# EAGLE library part SCB2000 (library ADVsocket-computer)
24MHz Socket Computer w. 10Base-T Ethernet-Interface, 128kB RAM , 512kFlash, 4 UARTs
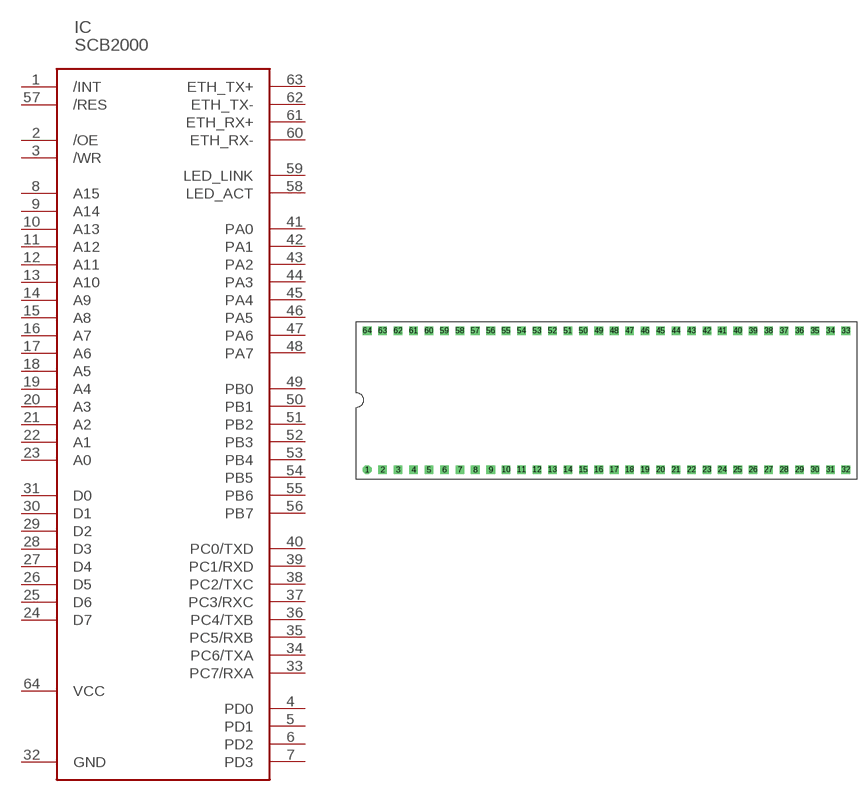
[diagram p0: symbol with the pads of DIL64; footprint DIL64]

Designator prefix IC

## SCB2000  [DIL64]
1  /INT  in
2  /OE  out
3  /WR  out
4  PD0
5  PD1
6  PD2
7  PD3
8  A15  out
9  A14  out
10  A13  out
11  A12  out
12  A11  out
13  A10  out
14  A9  out
15  A8  out
16  A7  out
17  A6  out
18  A5  out
19  A4  out
20  A3  out
21  A2  out
22  A1  out
23  A0  out
24  D7
25  D6
26  D5
27  D4
28  D3
29  D2
30  D1
31  D0
32  GND  pwr
33  PC7/RXA  in
34  PC6/TXA  out
35  PC5/RXB  in
36  PC4/TXB  out
37  PC3/RXC  in
38  PC2/TXC  out
39  PC1/RXD  in
40  PC0/TXD  out
41  PA0
42  PA1
43  PA2
44  PA3
45  PA4
46  PA5
47  PA6
48  PA7
49  PB0  in
50  PB1  in
51  PB2  in
52  PB3  in
53  PB4  in
54  PB5  in
55  PB6  out
56  PB7  out
57  /RES  in
58  LED_ACT  out
59  LED_LINK  out
60  ETH_RX-  in
61  ETH_RX+  in
62  ETH_TX-  out
63  ETH_TX+  out
64  VCC  pwr

## Footprint DIL64 (pad centres in mm)
drill 0.813 pad 1.422 octagon: 1 -38.1,-11.43
drill 0.813 pad 1.422 square: 2 -35.56,-11.43; 3 -33.02,-11.43; 4 -30.48,-11.43; 5 -27.94,-11.43; 6 -25.4,-11.43; 7 -22.86,-11.43; 8 -20.32,-11.43; 9 -17.78,-11.43; 10 -15.24,-11.43; 11 -12.7,-11.43; 12 -10.16,-11.43; 13 -7.62,-11.43; 14 -5.08,-11.43; 15 -2.54,-11.43; 16 0,-11.43; 17 2.54,-11.43; 18 5.08,-11.43; 19 7.62,-11.43; 20 10.16,-11.43; 21 12.7,-11.43; 22 15.24,-11.43; 23 17.78,-11.43; 24 20.32,-11.43; 25 22.86,-11.43; 26 25.4,-11.43; 27 27.94,-11.43; 28 30.48,-11.43; 29 33.02,-11.43; 30 35.56,-11.43; 31 38.1,-11.43; 32 40.64,-11.43; 33 40.64,11.43; 34 38.1,11.43; 35 35.56,11.43; 36 33.02,11.43; 37 30.48,11.43; 38 27.94,11.43; 39 25.4,11.43; 40 22.86,11.43; 41 20.32,11.43; 42 17.78,11.43; 43 15.24,11.43; 44 12.7,11.43; 45 10.16,11.43; 46 7.62,11.43; 47 5.08,11.43; 48 2.54,11.43; 49 0,11.43; 50 -2.54,11.43; 51 -5.08,11.43; 52 -7.62,11.43; 53 -10.16,11.43; 54 -12.7,11.43; 55 -15.24,11.43; 56 -17.78,11.43; 57 -20.32,11.43; 58 -22.86,11.43; 59 -25.4,11.43; 60 -27.94,11.43; 61 -30.48,11.43; 62 -33.02,11.43; 63 -35.56,11.43; 64 -38.1,11.43